# Altium schematic symbol library CP80 Preamp.SCHLIB: 58 symbols
Pins are listed as number, name and electrical type; pins without a type are passive.

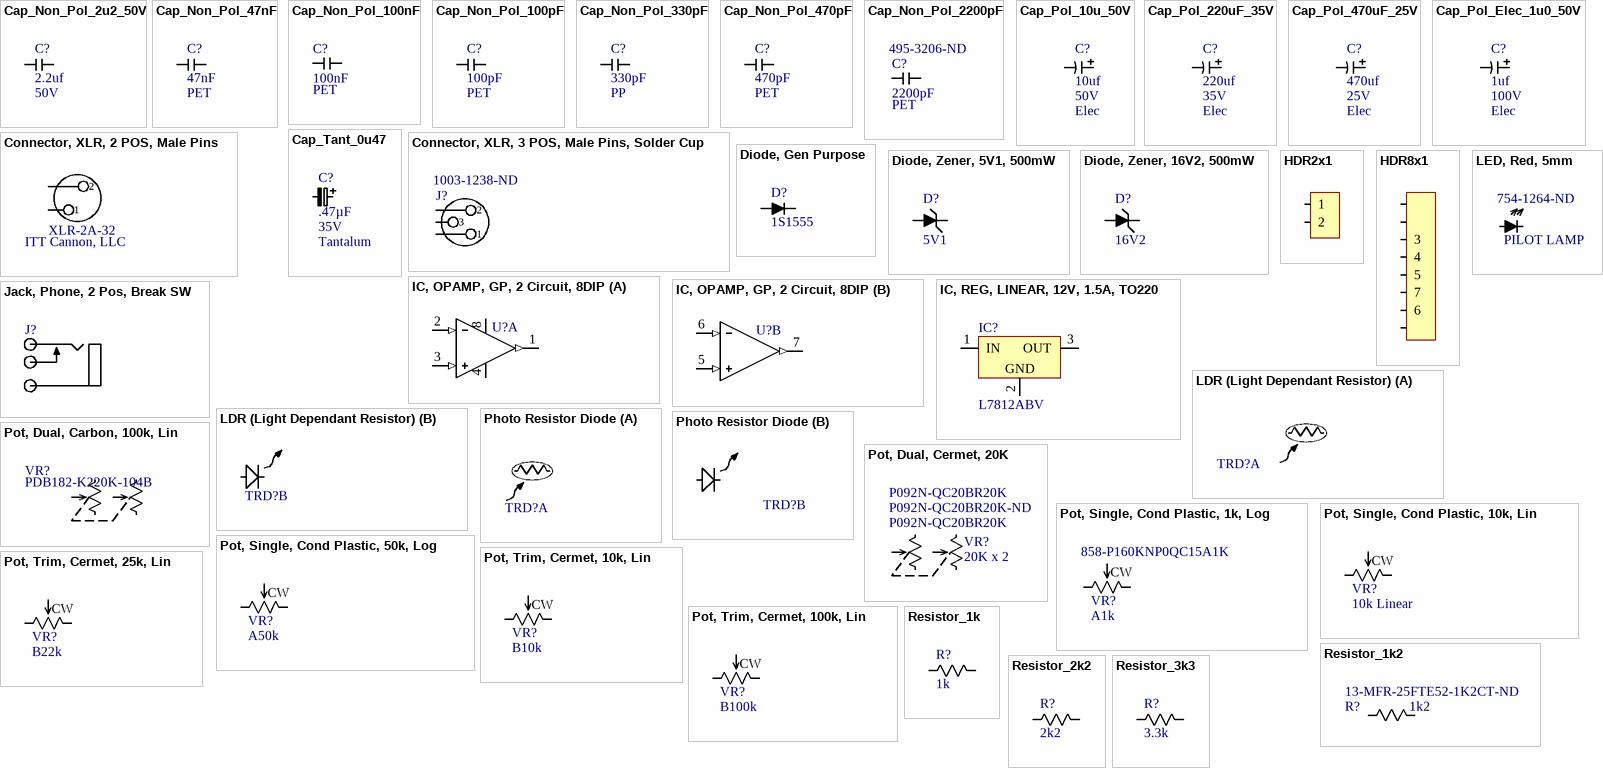
[diagram p0: symbols Cap_Non_Pol_2u2_50V to Resistor_3k3]

## Cap_Non_Pol_2u2_50V
designator C?, comment value 2.2uf  Voltage Rating: 50V  (hidden comment: 225BPS050M)
2.2uF ±20% 16V BiPolar Electrolytic / If these are replaced, be sure to use BiPolar Electrolytics. I would go with ±10% tollerance and a minimum 25V. Just make sure they physically are the correct size.; Manufacturer: Generic; Capacitor Type: BP Elec; Case/Package: Radial; Tolerance: 20%; Supplier 1: DigiKey; Supplier Part Number 1: 225BPS050M-ND
pins: 1, 2

## Cap_Non_Pol_47nF
designator C?, comment value 47nF  Capacitor Type: PET  (hidden comment: R76MF24705050J)
47nF (0.047uf) ±20% 20V (or higher) PET Capacitor / These were originally Mylar Film (PET) but I suggest replacing with metallized polypropylene (MKP / PP). Just ensure a propper lead spacing and fit.; Manufacturer: Various; Voltage Rating: 400V; Tolerance: 5%; Supplier 1: DigiKey; Supplier Part Number 1: 399-R76MF24705050J-ND
pins: 1, 2

## Cap_Non_Pol_100nF
designator C?, comment value 100nF  Capacitor Type: PET  (hidden comment: ECW-FE2W104JA)
100nF (0.1uf) ±20% 20V (or higher) PET Capacitor / These were originally Mylar Film (PET) but I suggest replacing with metallized polypropylene (MKP / PP). Just ensure a propper lead spacing and fit.; Manufacturer: KEMET; Voltage Rating: 20V; Tolerance: 20%; Supplier 1: DigiKey; Supplier Part Number 1: 10-ECW-FE2W104JA-ND
pins: 1, 2

## Cap_Non_Pol_100pF
designator C?, comment value 100pF  Capacitor Type: PET  (hidden comment: R76UI0100SE40J)
100pF ±20% 20V (or higher) PET Capacitor / These were originally Mylar Film (PET) but I suggest replacing with metallized polypropylene (MKP / PP). Just ensure a propper lead spacing and fit.; Manufacturer: KMET; Voltage Rating: 2000V; Tolerance: 5%; Supplier 1: DigiKey; Supplier Part Number 1: 399-R76UI0100SE40J-ND
pins: 1, 2

## Cap_Non_Pol_330pF
designator C?, comment value 330pF  Capacitor Type: PP  (hidden comment: PFR5331J630J11L4BULK)
330pF ±20% 20V (or higher) PET Capacitor / These were originally Mylar Film (PET) but I suggest replacing with metallized polypropylene (MKP / PP). Just ensure a propper lead spacing and fit.; Manufacturer: Various; Voltage Rating: 250V; Tolerance: 5%; Supplier 1: DigiKey; Supplier Part Number 1: 399-7718-ND
pins: 1, 2

## Cap_Non_Pol_470pF
designator C?, comment value 470pF  Capacitor Type: PET  (hidden comment: R76QF0470DQ00J)
470pF ±20% 20V (or higher) PET Capacitor / These were originally Mylar Film (PET) but I suggest replacing with metallized polypropylene (MKP / PP). Just ensure a propper lead spacing and fit.; Manufacturer: KMET; Voltage Rating: 1000V; Tolerance: 5%; Supplier 1: DigiKey; Supplier Part Number 1: 399-R76QF0470DQ00JCT-ND
pins: 1, 2

## Cap_Non_Pol_2200pF
designator C?, comment value 2200pF  Capacitor Type: PET  Supplier Part Number 1: 495-3206-ND  (hidden comment: B32671L1222J000)
2200pF ±20% 20V (or higher) PET Capacitor / These were originally Mylar Film (PET) but I suggest replacing with metallized polypropylene (MKP / PP). Just ensure a propper lead spacing and fit.; Manufacturer: KEMET; Voltage Rating: 600V; Tolerance: 5%; Supplier 1: DigiKey
pins: 1, 2

## Cap_Pol_10u_50V
designator C?, comment value 10uf  Voltage Rating: 50V  Capacitor Type: Elec  (hidden comment: UES1H100MPM)
10µF 20% 25V electrolytic Capacitor / If replacing, use a 10uF 10% 50V electrolytic woth a low ESR. Going to 50V will allow for 10% and a lower ESR as long as it still physically fits well.; Manufacturer: Generic; Tolerance: 20%; Case/Package: Radial; Supplier 1: DigiKey; Supplier Part Number 1: 493-15033-ND
pins: N, P

## Cap_Pol_220uF_35V
designator C?, comment value 220uf  Voltage Rating: 35V  Capacitor Type: Elec  (hidden comment: UKT1V221MPD)
220µF 20% 25V Electrolytic Capacitor / If replacing, use a good quality 220uF 20% (or better) 25V Electrolytic Capacitor that physically fits correctly; Manufacturer: Generic; Tolerance: 20%; Case/Package: Radial; Supplier 1: DigiKey; Supplier Part Number 1: 493-15452-ND
pins: N, P

## Cap_Pol_470uF_25V
designator C?, comment value 470uf  Voltage Rating: 25V  Capacitor Type: Elec  (hidden comment: ECE-A1EN471U)
470µF 20% 25V Electrolytic Capacitor / If replacing just use a generic replacement 470uF 20% 25V Electrolytic. This is just for Power Supply Ripple.; Manufacturer: Generic; Tolerance: 20%; Case/Package: Radial; Supplier 1: DigiKey; Supplier Part Number 1: P1183-ND
footprint 0603 POL (1608 Metric) (Chip Capacitor, Polarized, 2-Leads, Body 1.60x0.80mm, IPC Medium Density)
pins: N, P

## Cap_Pol_Elec_1u0_50V
designator C?, comment value 1uf  Voltage Rating: 100V  Capacitor Type: Elec  (hidden comment: 105BPS100M)
1uf, 50V, 20%, Electrolytic / If these need replacement, just use a low ESR 1uF, 50V, 10% or 20% Electrolytic that is the correct physical size; Manufacturer: Generic; Tolerance: 20%; Case/Package: Radial; Supplier 1: DigiKey; Supplier Part Number 1: 105BPS100M-ND
pins: N, P

## Cap_Tant_0u47
designator C?, comment value .47µF  Voltage Rating: 35V  Capacitor Type: Tantalum  (hidden comment: T356A474K035AT)
.47µF TANT 20% 16V / The originals were most likely 20% @ 16V with an ESR of 50 Ohms @ 100Khz. If replaced I would use 10%, 20V with 5 Ohm ESR @ 100Khz; Manufacturer: KMET; Tolerance: 10%; Case/Package: Radial; Supplier 1: DigiKey; Supplier Part Number 1: 399-3617-ND
pins: N, P

## Connector, XLR, 2 POS, Male Pins
designator J?, comment Manufacturer: ITT Cannon, LLC  (hidden comment: XLR-2A-32)
2 Position Circular Connector Plug, Female Sockets Solder / XLR-2A-32 is the male version on the piano while XLR2A11C Is the female connector on the cable; Supplier 1: Master Electronics; Supplier Part Number 1: XLR2A32; Part Number: XLR-2A-32
footprint SODFL370X135-2N (SODFL, 2-Leads, Body 1.55x3.70mm, IPC Medium Density)
pins: 0, 0
text: 2; 1

## Connector, XLR, 3 POS, Male Pins, Solder Cup
designator J?, comment Supplier Part Number 1: 1003-1238-ND  (hidden comment: XLR-3-32)
3 Position Circular Connector Receptacle, Male Pins Solder Cup / Replace with same if replacing; Manufacturer: ITT Cannon, LLC; Part Number: XLR-3-32; Supplier 1: DigiKey
pins: 0, 0, 0
text: 2; 3; 1

## Diode, Gen Purpose
designator D?, comment Part Number: 1S1555  (hidden comment: 1N4148)
General purpose Rectifier Diode, 300mA, 35V V(RRM) / If replacing and you cannot find the original, a 1N4148 should be fine; Manufacturer: Toshiba; Voltage - Forward (Max) @ If: 1.4V; Current - Average Rectified: 100mA; Voltage - DC Reverse (Max): 35V; Supplier 1: DigiKey; Supplier Part Number 1: 1N4148FS-ND
pins: A, C

## Diode, Zener, 5V1, 500mW
designator D?, comment Voltage - Zener (Nom): 5V1  (hidden comment: 1N5231BTR)
Zener Diode 5.1 V 500 mW 5% / If replacing, any 5V1 zener capable of 500mW is fine; Manufacturer: Japan Radio Co LTD; Impedence (Max): 60; Case/Package: Radial; Tolerance: 5%; Power - Max: 500mW; Supplier 1: Mouser; Supplier Part Number 1: 494-1N5231B/TR
footprint SODFL250X100-2N (SODFL, 2-Leads, Body 1.25x2.50mm, IPC Medium Density)
pins: A, C

## Diode, Zener, 16V2, 500mW
designator D?, comment Voltage - Zener (Nom): 16V2  (hidden comment: 1N5246B)
Zener Diode 16V2 500 mW 5% / If replacing, any 16V2 zener with 500mW capability will work.; Manufacturer: Japan Radio Co LTD; Impedence (Max): 20; Power - Max: 500W; Case/Package: Radial; Tolerance: 5%; Supplier 1: DigiKey; Supplier Part Number 1: 1N5246BTRFSCT-ND
footprint SODFL250X100-2N (SODFL, 2-Leads, Body 1.25x2.50mm, IPC Medium Density)
pins: A, C

## HDR2x1
designator J?  (value not drawn)
2 pin 0.1" spacing header; Gender: Female; Connector Type: Pin HEader; System: Connector; Pinout: 2x1; Mating Housing: N/A; Manufacturer: N/A; CUL Cert No.: N/A; UL Cert No.: N/A; Case/Package: TH 2x1
footprint HDR1X2 (Connector; Header; 2 Position)
pins: 1, 2

## HDR8x1
designator J?, comment HRD8x1  (value not drawn)
8 pin 0.1" header; Manufacturer: Generic; Gender: Male; Pinout: 8x1; System: Connector; Connector Type: Pin Header; CUL Cert No.: N/A; UL Cert No.: N/A; Case/Package: TH 8x1; Mating Housing: N/A
footprint HDR1X8 (Connector; Header; 8 Position)
pins: 1, 2, 3, 4, 5, 6, 7, 8

## IC, OPAMP, GP, 2 Circuit, 8DIP
designator U?, comment RC4558IP  (value not drawn)
Dual General-Purpose Operational Amplifier, 10 to 30 V, 0 to 70 degC, 8-pin SOP (PW8), Green (RoHS & no Sb/Br) / If replacing, replace with the same as removed. These are still available.; PartNumber: RC4558PWR; Manufacturer: Texas Instruments; Number of Channels: 2; Total Supply Voltage(Max)(+5V is 5, +/-5V is 10): 30; Iq per channel(Max)(mA): 2.8; Slew Rate(Typ)(V/us): 1.7; Vio (25C)(Max)(mV): 6; Vn at 1kHz(Typ)(nV/rtHz): 8; GBW(Typ)(MHz): 3; CMRR(Min)(dB): 70; Supplier 1: DigiKey; Supplier Part Number 1: 296-17460-5-ND
part A pins: 1 OUT1 (out), 2 IN1- (in), 3 IN1+ (in), 4, 8
part B pins: 5 IN2+ (in), 6 IN2- (in), 7 OUT2 (out)

## IC, REG, LINEAR, 12V, 1.5A, TO220
designator IC?, comment L7812ABV
Originally a FS7812L Linear Voltage Regulator IC Positive Fixed 1 Output 1.5A TO-220 / If replacing, there are many pin for pin compatible devices; Manufacturer: STMicroelectronics; Package: TO220; Supplier 1: DigiKey; Supplier Part Number 1: 497-1449-5-ND; Part Number: L7812ABV
footprint TO220 (TO, Thru-Hole, Vertical, Heatsink Mounted; 3 In-Line Leads; Pitch 2.54 mm)
pins: 1 IN (power), 2 GND (power), 3 OUT (power)

## Jack, Phone, 2 Pos, Break SW
designator J?, comment 112AX  (value not drawn)
Phone Jack, 6.35mm (0.250", 1/4", Mono Connector, 1 Switch Contact / If replacing, replace with same high quality; Supplier 1: DigiKey; Supplier Part Number 1: SC1316-ND
pins: 1, 2, 3, 3, 3

## LDR (Light Dependant Resistor)
designator TRD?, comment NSL-32SR2S  (value not drawn)
This original part was a MCD-527 LDR (Light Dependent Resistor). / If replacing, the Advanced Photonix NSL-32SR2S OPTOISO PHOTOCELL OPTOCOUPLER is a very close alternative and is available on DigiKey. I will do more research on this (put one in a PreAmp) to see if any other tweaks are necessary.; Manufacturer: Silicon Sensors Inc; Power Dissipation (Max): 90mW; LED Forward Current (Max): 50mA; LED Forward Current (Nom): 30mA; LED Forward Voltage: 1.7V; LED Reverse Voltage (Max): 2.0V; CdS Resistance On: 1K; CdS Resistance Off: 2M; CdS Power (Max): 70mW; CdS Voltage (Max): 150V; Part Number: MCD-527; Supplier 1: DigiKey; Supplier Part Number 1: NSL-32SR2S-ND
footprint SODFL370X135-2N (SODFL, 2-Leads, Body 1.55x3.70mm, IPC Medium Density)
part A pins: 0, 1
part B pins: 2, 3

## LED, Red, 5mm
designator D?, comment Function: PILOT LAMP  Supplier Part Number 1: 754-1264-ND  (hidden comment: WP7113ID)
Single Color (Red) LED / If replacing, any standard LED with a forward voltage of 1V7 to 2V2 will work fine; Manufacturer: Various; Voltage - Forward (Max) @ If: 1V7; Supplier 1: DigiKey
footprint LED_SMD_0805
footprint Everlight IR SMD LED (EMITTER IR 940NM 65MA SMD)
pins: 1 A, 2 K

## Photo Resistor Diode
designator TRD?, comment BAV21W-7-F  (value not drawn)
Rectifier Diode, 1 Phase, 1 Element, 0.2A, 200V V(RRM), Silicon; Manufacturer: Diodes Incorporated; Current - Average Rectified: 200mA; Voltage - Forward (Max) @ If: 1.25V@200ma; Voltage - DC Reverse (Max): 200V; Mounting Type: Surface Mount; Package / Case: SOD-123
footprint SODFL370X135-2N (SODFL, 2-Leads, Body 1.55x3.70mm, IPC Medium Density)
part A pins: 0, 1
part B pins: 2, 3

## Pot, Dual, Carbon, 100k, Lin
designator VR?, comment PDB182-K220K-104B
100k Ohm 2 Gang Linear Through Hole Potentiometer 1.0 Turns Carbon 0.125W, 1/8W PC Pins / Replace with conductive plastic or cermet if possible. This one is carbon.; Manufacturer: Various; Value: B100K x 2; Power: 125mW; Tolerance: 20%; Supplier 1: DigiKey; Supplier Part Number 1: PDB182-K220K-104B-ND
footprint SODFL370X135-2N (SODFL, 2-Leads, Body 1.55x3.70mm, IPC Medium Density)
pins: 0, 0, 0, 0, 1, 1

## Pot, Dual, Cermet, 20K
designator VR?, comment value 20K x 2  Supplier Part Number 2: P092N-QC20BR20K-ND  (hidden comment: P092N-QC20BR20K)
20k Ohm 2 Gang Linear Through Hole Potentiometer 1.0 Turns Carbon 0.125W, 1/8W PC Pins / Replace with Conductive Plastric or Cermet. Ensure proper mechanical fit.; Manufacturer: Various; Power: 125mW; Tolerance: 20%; Supplier 1: Master Electronics; Supplier 2: DigiKey; Supplier 3: Onlinecomponents.com; Supplier Part Number 1: P092N-QC20BR20K; Supplier Part Number 3: P092N-QC20BR20K
footprint SODFL370X135-2N (SODFL, 2-Leads, Body 1.55x3.70mm, IPC Medium Density)
pins: 0, 0, 0, 0, 1, 1

## Pot, Single, Cond Plastic, 1k, Log
designator VR?, comment value A1k  Supplier Part Number 1: 858-P160KNP0QC15A1K  (hidden comment: P160KNP-0QC15A1K)
1k Ohm 1 Gang Logarithmic Through Hole Potentiometer 1.0 Turns Carbon 0.125W, 1/8W PC Pins / Replace with conductive plastic.; Manufacturer: Bourns; Power: 250mW; Tolerance: 20%; Supplier 1: Mouser
pins: 1, 2, 3
text: CW

## Pot, Single, Cond Plastic, 10k, Lin
designator VR?, comment value 10k Linear  (hidden comment: P160KN-0QD15B10K)
10k Ohm 1 Gang Linear Through Hole Potentiometer 1.0 Turns Carbon 0.125W, 1/8W PC Pins / Replace with conductive plastic; Manufacturer: Various; Power: .2mW; Tolerance: 20%; Supplier 1: DigiKey; Supplier Part Number 1: 987-1308-ND
footprint SMD RES 1kO 20% .250W 200V 2420-Footprint-1
pins: 1, 2, 3
text: CW

## Pot, Single, Cond Plastic, 50k, Log
designator VR?, comment value A50k  (hidden comment: P160KNP-0FC25A50K)
50k Ohm 1 Gang Logarithmic Through Hole Potentiometer 1.0 Turns Carbon 0.125W, 1/8W PC Pins / Replace with conductive plastic.; Manufacturer: Various; Power: 200mW; Tolerance: 20%; Supplier 1: Mouser; Supplier Part Number 1: 858-P160KNP0FC25A50K
pins: 1, 2, 3
text: CW

## Pot, Trim, Cermet, 10k, Lin
designator VR?, comment value B10k  (hidden comment: 3266W-1-103LF)
10k Linear taper 20% .250W carbon Adjustable Resistor - Trimmer / If replacing, use a 1/4W cermet multi turn with 10% tolerance as they are much better. Find a physical size that works... I will do more research on these as I would also (personally) use a multiturn pot if I can find one that fits.; Manufacturer: Various; Power: 125mw; Tolerance: 20%; Supplier 1: DigiKey; Supplier Part Number 1: 3266W-103LF-ND
pins: 1, 2, 3
text: CW

## Pot, Trim, Cermet, 25k, Lin
designator VR?, comment value B22k  (hidden comment: 3266W-1-253LF)
Original was 22k Linear 20% .250W carbon Adjustable Resistor - Trimmer / If replacing, use a 1/4W cermet multi turn with 10% tolerance as they are much better. I am using a 25k as they are much easier to source and it will work just fine. Find a physical size that works... I will do more research on these as I would also (personally) use a multiturn pot if I can find one that fits.; Manufacturer: Various; Power: 250mW; Tolerance: 20%; Supplier 1: DigiKey; Supplier Part Number 1: 3266W-253LF-ND
footprint SMD RES 1kO 20% .250W 200V 2420-Footprint-1
pins: 1, 2, 3
text: CW

## Pot, Trim, Cermet, 100k, Lin
designator VR?, comment value B100k  (hidden comment: 3266W-1-104LF)
100k Linear taper 20% .250W carbon Adjustable Resistor - Trimmer / If replacing, use a 1/4W cermet multi turn with 10% tolerance as they are much better. Find a physical size that works... I will do more research on these as I would also (personally) use a multiturn pot if I can find one that fits.; Manufacturer: Various; Power: 250mW; Tolerance: 20%; Supplier 1: DigiKey; Supplier Part Number 1: 3266W-104LF-ND
pins: 1, 2, 3
text: CW

## Resistor_1k
designator R?, comment value 1k  (hidden comment: MFR-25FTE52-1K)
1k 10% 1/4 Watt Resistor / All resistors are 10% 1/4 Watt. I suggest any replacement use 1% 1/4 Watt metal film.; Manufacturer: Yageo; Power: 250mW; Tolerance: 1%; Supplier 1: DigiKey; Supplier Part Number 1: 13-MFR-25FTE52-1KCT-ND
pins: 1, 2

## Resistor_1k2
designator R?, comment value 1k2  Supplier Part Number 1: 13-MFR-25FTE52-1K2CT-ND  (hidden comment: MFR-25FTE52-1K2)
1k2 10% 1/4 Watt Resistor / All resistors are 10% 1/4 Watt. I suggest any replacement use 1% 1/4 Watt metal film.; Manufacturer: Yageo; Power: 250mW; Tolerance: 1%; Supplier 1: DigiKey
pins: 1, 2

## Resistor_2k2
designator R?, comment value 2k2  (hidden comment: MFR-25FTE52-2K2)
2k2 10% 1/4 Watt Resistor / All resistors are 10% 1/4 Watt. I suggest any replacement use 1% 1/4 Watt metal film.; Manufacturer: Yageo; Power: 250mW; Tolerance: 1%; Supplier 1: DigiKey; Supplier Part Number 1: 13-MFR-25FTE52-2K2CT-ND
pins: 1, 2

## Resistor_3k3
designator R?, comment value 3.3k  (hidden comment: MFR-25FTE52-3K3)
3k3 10% 1/4 Watt Resistor / All resistors are 10% 1/4 Watt. I suggest any replacement use 1% 1/4 Watt metal film.; Manufacturer: Yageo; Power: 250mW; Tolerance: 1%; Supplier 1: DigiKey; Supplier Part Number 1: 13-MFR-25FTE52-3K3CT-ND
pins: 1, 2

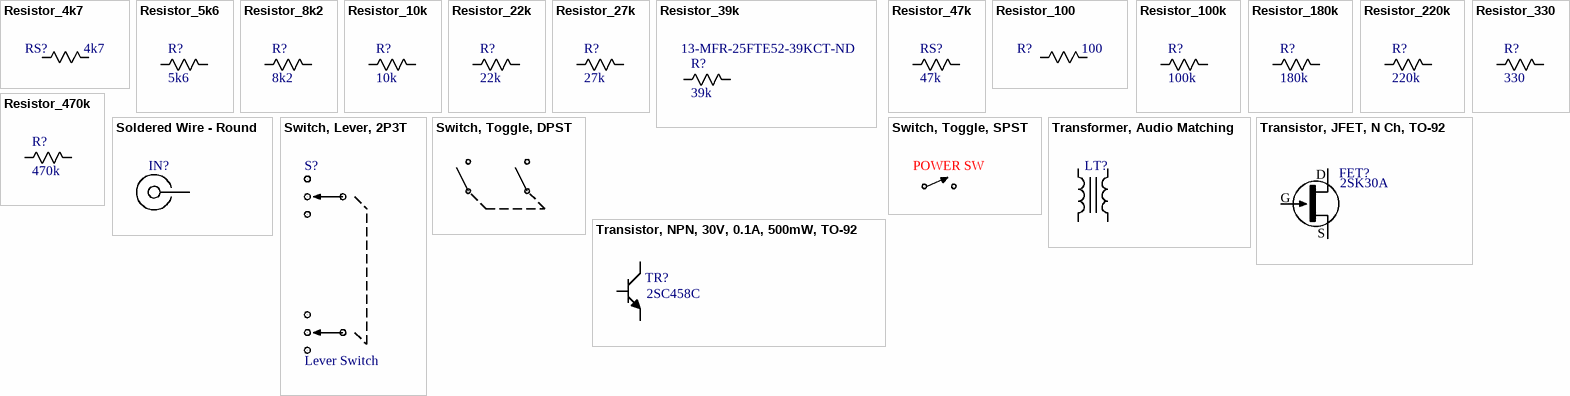
[diagram p1: symbols Resistor_4k7 to Transistor, NPN, 30V, 0.1A, 500mW, TO-92]

## Resistor_4k7
designator RS?, comment value 4k7  (hidden comment: MFR-25FTE52-4K7)
4k7 10% 1/4 Watt Resistor / All resistors are 10% 1/4 Watt. I suggest any replacement use 1% 1/4 Watt metal film.; Manufacturer: Yageo; Power: 250mW; Tolerance: 1%; Supplier 1: DigiKey; Supplier Part Number 1: 13-MFR-25FTE52-4K7CT-ND
pins: 1, 2

## Resistor_5k6
designator R?, comment value 5k6  (hidden comment: MFR-25FTE52-5K6)
5k6 10% 1/4 Watt Resistor / All resistors are 10% 1/4 Watt. I suggest any replacement use 1% 1/4 Watt metal film.; Manufacturer: Yageo; Power: 250mW; Tolerance: 1%; Supplier 1: DigiKey; Supplier Part Number 1: 13-MFR-25FTE52-5K6CT-ND
pins: 1, 2

## Resistor_8k2
designator R?, comment value 8k2  (hidden comment: MFR-25FTE52-8K2)
8k2 10% 1/4 Watt Resistor / All resistors are 10% 1/4 Watt. I suggest any replacement use 1% 1/4 Watt metal film.; Manufacturer: Yageo; Power: 250mW; Tolerance: 1%; Supplier 1: DigiKey; Supplier Part Number 1: 13-MFR-25FTE52-8K2CT-ND
pins: 1, 2

## Resistor_10k
designator R?, comment value 10k  (hidden comment: MFR-25FTE52-10K)
10k 10% 1/4 Watt Resistor / All resistors are 10% 1/4 Watt. I suggest any replacement use 1% 1/4 Watt metal film.; Manufacturer: Yageo; Power: 250mW; Tolerance: 1%; Supplier 1: DigiKey; Supplier Part Number 1: 13-MFR-25FTE52-10KCT-ND
pins: 1, 2

## Resistor_22k
designator R?, comment value 22k  (hidden comment: MFR-25FTE52-22K)
22k 10% 1/4 Watt Resistor / All resistors are 10% 1/4 Watt. I suggest any replacement use 1% 1/4 Watt metal film.; Manufacturer: Yageo; Power: 250mW; Tolerance: 1%; Supplier 1: DigiKey; Supplier Part Number 1: 13-MFR-25FTE52-22KCT-ND
pins: 1, 2

## Resistor_27k
designator R?, comment value 27k  (hidden comment: MFR-25FTE52-27K)
27k 10% 1/4 Watt Resistor / All resistors are 10% 1/4 Watt. I suggest any replacement use 1% 1/4 Watt metal film.; Manufacturer: Yageo; Power: 250mW; Tolerance: 1%; Supplier 1: DigiKey; Supplier Part Number 1: 13-MFR-25FTE52-27KCT-ND
pins: 1, 2

## Resistor_39k
designator R?, comment value 39k  Supplier Part Number 1: 13-MFR-25FTE52-39KCT-ND  (hidden comment: MFR-25FTE52-39K)
39k 10% 1/4 Watt Resistor / All resistors are 10% 1/4 Watt. I suggest any replacement use 1% 1/4 Watt metal film.; Manufacturer: Yageo; Power: 250mW; Tolerance: 1%; Supplier 1: DigiKey
pins: 1, 2

## Resistor_47k
designator RS?, comment value 47k  (hidden comment: MFR-25FTE52-47K)
47k 10% 1/4 Watt ResistorAll resistors are 10% 1/4 Watt. / I suggest any replacement use 1% 1/4 Watt metal film.; Manufacturer: Yageo; Power: 250mW; Tolerance: 1%; Supplier 1: DigiKey; Supplier Part Number 1: 13-MFR-25FTE52-47KCT-ND
pins: 1, 2

## Resistor_100
designator R?, comment value 100  (hidden comment: MFR-25FTE52-100R)
100 10% 1/4 Watt Resistor / All resistors are 10% 1/4 Watt. I suggest any replacement use 1% 1/4 Watt metal film.; Manufacturer: Yageo; Power: 250mW; Tolerance: 1%; Supplier 1: DigiKey; Supplier Part Number 1: 13-MFR-25FTE52-100RCT-ND
pins: 1, 2

## Resistor_100k
designator R?, comment value 100k  (hidden comment: MFR-25FTE52-100K)
100k 10% 1/4 Watt Resistor / All resistors are 10% 1/4 Watt. I suggest any replacement use 1% 1/4 Watt metal film.; Manufacturer: Yageo; Power: 250mW; Tolerance: 1%; Supplier 1: DigiKey; Supplier Part Number 1: 13-MFR-25FTE52-100KCT-ND
pins: 1, 2

## Resistor_180k
designator R?, comment value 180k  (hidden comment: MFR-25FTE52-180K)
180k 10% 1/4 Watt Resistor / All resistors are 10% 1/4 Watt. I suggest any replacement use 1% 1/4 Watt metal film.; Manufacturer: Yageo; Power: 250mW; Tolerance: 1%; Supplier 1: DigiKey; Supplier Part Number 1: 13-MFR-25FTE52-180KCT-ND
pins: 1, 2

## Resistor_220k
designator R?, comment value 220k  (hidden comment: MFR-25FTE52-220K)
220k 10% 1/4 Watt Resistor / All resistors are 10% 1/4 Watt. I suggest any replacement use 1% 1/4 Watt metal film.; Manufacturer: Yageo; Power: 250mW; Tolerance: 1%; Supplier 1: DigiKey; Supplier Part Number 1: 13-MFR-25FTE52-220KCT-ND
pins: 1, 2

## Resistor_330
designator R?, comment value 330  (hidden comment: MFR-25FTE52-330R)
330 10% 1/4 Watt Resistor / All resistors are 10% 1/4 Watt. I suggest any replacement use 1% 1/4 Watt metal film.; Manufacturer: Yageo; Power: 250mW; Tolerance: 1%; Supplier 1: DigiKey; Supplier Part Number 1: 13-MFR-25FTE52-330RCT-ND
pins: 1, 2

## Resistor_470k
designator R?, comment value 470k  (hidden comment: MFR-25FTE52-470K)
470k 10% 1/4 Watt Resistor / All resistors are 10% 1/4 Watt. I suggest any replacement use 1% 1/4 Watt metal film.; Manufacturer: Yageo; Power: 250mW; Tolerance: 1%; Supplier 1: DigiKey; Supplier Part Number 1: 13-MFR-25FTE52-470KCT-ND
pins: 1, 2

## Soldered Wire - Round
designator IN?, comment Soldered Wire - Round Pad  (value not drawn)  (no BOM)
Single connection for a wire using a round pad that allows for insertion from either side; Manufacturer: NA; Gender: Female; System: Connector; Pinout: TH 1x1; Connector Type: Single Wire; Mating Housing: N/A; CUL Cert No.: NA; UL Cert No.: NA; Case/Package: TH 1x1
footprint 12AWG Soldered Wire - Round
footprint 14AWG Soldered Wire - Round
footprint 16AWG Soldered Wire - Round
footprint 18AWG Soldered Wire - Round
footprint 20AWG Soldered Wire - Round
footprint 22AWG Soldered Wire - Round
footprint 24AWG Soldered Wire - Round
footprint 26AWG Soldered Wire - Round
footprint 28AWG Soldered Wire - Round
pins: 1

## Switch, Lever, 2P3T
designator S?, comment Lever Switch
Lever Switch, 2P3T - Unknown replacement as of yet.; Manufacturer: UNK; Part Number: UNK
pins: 0, 1, 2, 2, 2, 2, 2, 2

## Switch, Toggle, DPST
designator S?  (value not drawn)
This is a specialized switch with no known replacement. Will research more.
pins: 0, 0, 1, 1

## Switch, Toggle, SPST
designator PS?, comment POWER SW
Slide switch. Need to find replacement part number
pins: 0, 1

## Transformer, Audio Matching
designator LT?, comment GD90025  (value not drawn)
The original was a GD90025 - I think these can be replaced with Hammond audio signal transformers... I need to put these on the analyzer to see.; Manufacturer: Diodes Incorporated; Part Number: GD90025
footprint SODFL370X135-2N (SODFL, 2-Leads, Body 1.55x3.70mm, IPC Medium Density)
pins: 0, 0, 1, 1

## Transistor, JFET, N Ch, TO-92
designator FET?, comment 2SK30A
Original was an N Channel JFET 2SK30A in a TO-92 Footprint / These have extremely wide tollerances - Always check for correct biasing when replacing. There will be an entire write up on how to do this in the Documents folder; Manufacturer: TOSHIBA; Package: TO92; Supplier 1: Win Source; Supplier Part Number 1: 18270-2SK30A-Y; Part Number: 2SK30A
footprint TO92
pins: 1 S, 2 G, 3 D

## Transistor, NPN, 30V, 0.1A, 500mW, TO-92
designator TR?, comment Part Number: 2SC458C  (hidden comment: BC549BTA)
Small Signal Bipolar Transistor, 0.6A I(C), 40V V(BR)CEO, 1-Element, NPN, Silicon, TO-236 / If replacing, a BC549BTA or equivelant will work fine. These are just for turnming on the LEDs in the LDRs.; Manufacturer: Hitachi; Vce Saturation (Max) @ Ib, Ic: 400mV @ Ic=10mA, Ib 1mA; DC Current Gain (hFE) (Min) @ Ic, Vce: 100 @ Ic=10mA, VCE=1V; Current - Collector Cutoff (Max): 500nA; Power - Max: 200mW; Current - Collector (Ic) (Max): 100mA; Type: NPN; Case/Package: TO-92; Supplier 1: DigiKey; Supplier Part Number 1: BC549BTACT-ND
footprint SOT95P237X111-3N (SOT23, 3-Leads, Body 2.92x2.37mm, Pitch 0.95mm, IPC Medium Density)
pins: 1, 2, 3